# EAGLE library part CONNECTOR-33 (library marius)
30-pin connectors
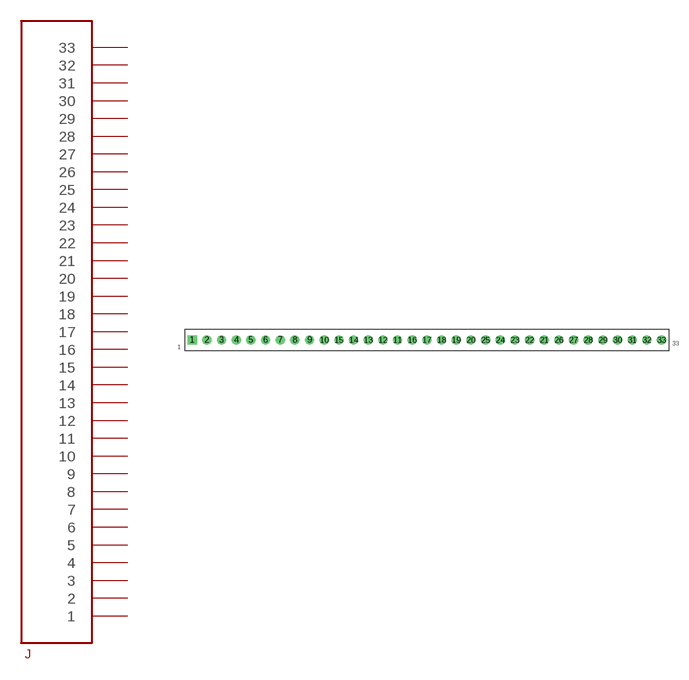
[diagram p20: symbol with the pads of HEADER-33; footprint HEADER-33]

Designator prefix J

## CONNECTOR-33HEADER  [HEADER-33]
1  1
2  2
3  3
4  4
5  5
6  6
7  7
8  8
9  9
10  10
11  11
12  12
13  13
14  14
15  15
16  16
17  17
18  18
19  19
20  20
21  21
22  22
23  23
24  24
25  25
26  26
27  27
28  28
29  29
30  30
31  31
32  32
33  33

## Footprint HEADER-33 (pad centres in mm)
5-pin JST PH Shrouded Header 2.0mm pitch P/N B5B-PH-K-S. Mating plug PHR-5
drill 1 pad 1.6 square: 1 0,0
drill 1 pad 1.6: 2 2.54,0; 3 5.08,0; 4 7.62,0; 5 10.16,0; 6 12.7,0; 7 15.24,0; 8 17.78,0; 9 20.32,0; 10 22.86,0; 11 35.56,0; 12 33.02,0; 13 30.48,0; 14 27.94,0; 15 25.4,0; 16 38.1,0; 17 40.64,0; 18 43.18,0; 19 45.72,0; 20 48.26,0; 21 60.96,0; 22 58.42,0; 23 55.88,0; 24 53.34,0; 25 50.8,0; 26 63.5,0; 27 66.04,0; 28 68.58,0; 29 71.12,0; 30 73.66,0; 31 76.2,0; 32 78.74,0; 33 81.28,0